# Altium schematic symbol library INA333DGK.SchLib: 2 symbols
Pins are listed as number, name and electrical type; pins without a type are passive.

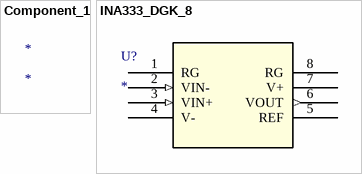
[diagram p0: symbols Component_1 to INA333_DGK_8]

## Component_1
designator *

## INA333_DGK_8
designator U?
Imported; Manufacturer: Texas Instruments; GENERIC_PART_NUMBER: INA333; Manufacturer_Part_Number: ina333_dgk_8; INDUSTRY_STD_PKG_TYPE: MSOP; FAMILY_NAME: SINGLE SUPPLY; PIN_COUNT: 8; PACKAGE_DESIGNATOR: DGK; Datasheet_URL: http://www.ti.com/lit/gpn/INA333; Vendor: Texas Instruments; Value: Value; Type: Type; RefDes: RefDes
footprint DGK8
pins: 1 RG, 2 VIN- (in), 3 VIN+ (in), 4 V- (power), 5 REF, 6 VOUT (out), 7 V+ (power), 8 RG